# EAGLE library part WE-TVS-HS_SOT563_82400152 (library 82400102_Eagle_WE-TVS_rev19a)
WE-TVS TVS Diode – High Speed Series Characteristics Low clamping voltage Sturdy design Very low capacitance Flow Thru Design for a simple layout Rail to Rail protection Epoxy flame resistant UL94-V0 RoHS, REACH and free of halogens Applications Very fast data lines USB 2.0 Ethernet PoE VGA Sim Cards Keypads HS = High Speed <https://katalog.we-online.com/media/images/v2/o14883v209%20Family_WE-TVS_HIGHSPEED.> Details see: https://katalog.we-online.com/en/pbs/WE-TVS-HS Updated by Ella Wu 2019-07-12 2019 (C) Wurth Elektronik
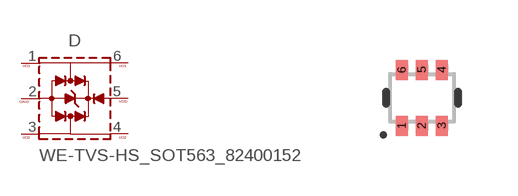
[diagram p5: symbol with the pads of WE-TVS_SOT563; footprint WE-TVS_SOT563]

Designator prefix D

## WE-TVS-HS_SOT563_82400152 (C-CH: 2pF; CHANNELS: 2+1; DATASHEET-URL: https://katalog.we-online.com/pbs/datasheet/82400152.pdf; IPEAK: 6A; MOUNT: SMT; PART-NUMBER: 82400152; VALUE: 5Vdc; VBR: 6V)  [WE-TVS_SOT563]
1  I/O1
2  GND  pwr
3  I/O2
4  I/O4
5  VDD  pwr
6  I/O3

## Footprint WE-TVS_SOT563 (pad centres in mm)
WE-TVS TVS Diode Size: SOT563 L X W X H = 1.6mm X1.6mm X 0.55mm
smd 0.3 x 0.5: 1 -0.5,-0.7; 2 0,-0.7; 3 0.5,-0.7; 4 0.5,0.7; 5 0,0.7; 6 -0.5,0.7